# Altium footprint library RelayBord.PcbLib: 28 footprints (part 1 of 2)
Each footprint in its own frame and in the unit in brackets; x right, y up, seen from the top. Pads: shape width x height; smd on the part's side, far side on the other; paste and mask are expansions set on the pad; w line width, h text height; cw(c..) or ccw(c..) is an arc to the next point about the centre after c.
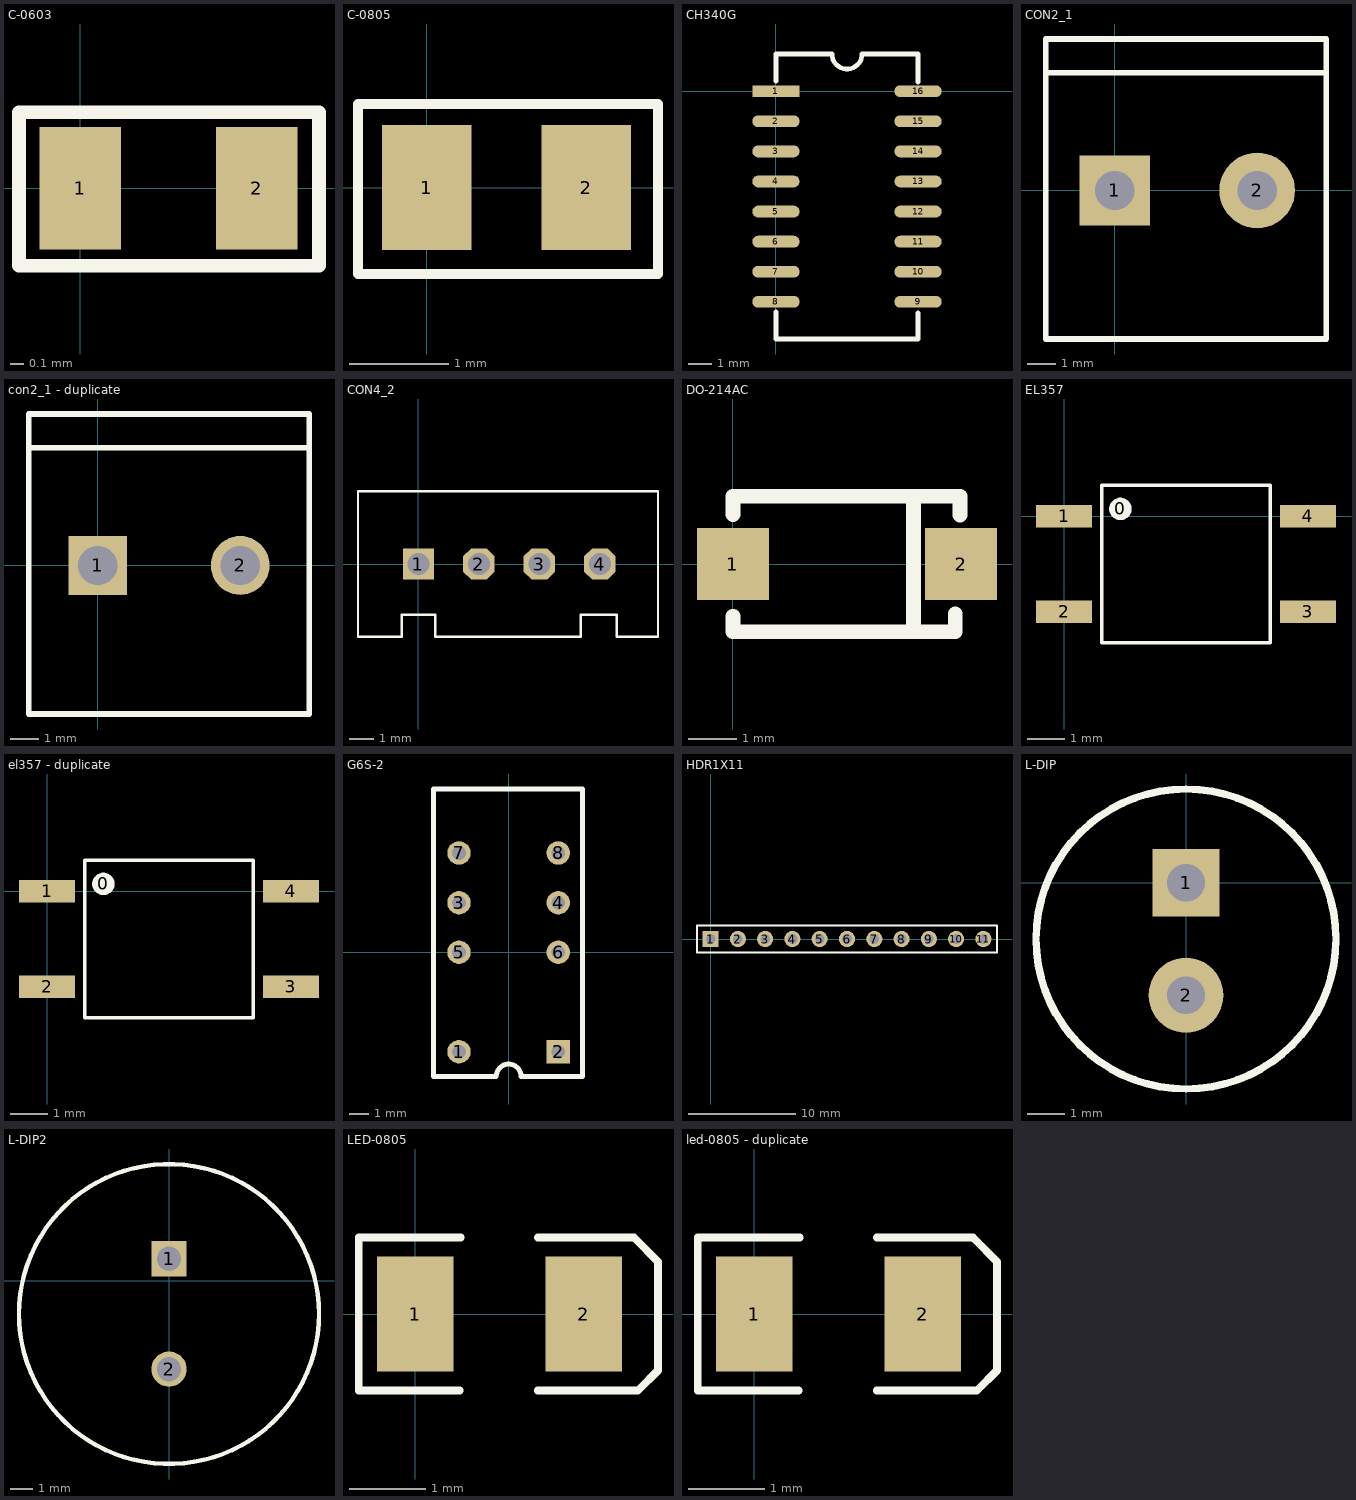
[diagram p0: the footprints below, top view; thin cyan lines are the x and y axes]

## AD7705 [mm]

## C-0603 [mm] "SMT 1.6*0.81*0.25"
height 0.35
pads (2):
  rect 0.6x0.9 smd: 1(0,0) 2(1.3,0)
Top Overlay:
  lines w0.1: -0.45,-0.57 -0.45,0.56 1.76,0.56 1.76,-0.57 -0.45,-0.57

## C-0805 [mm] "SMT"
height 0.35
pads (2):
  rect 0.9x1.25 smd: 1(0,0) 2(1.6,0)
Top Overlay:
  lines w0.1: -0.69,-0.87 -0.69,0.84 2.32,0.84 2.32,-0.87 -0.69,-0.87

## CH340G [mm]
pads (16):
  rect 2x0.5 smd: 1(0,0)
  oval 2x0.5 smd: 2(0,-1.27) 3(0,-2.54) 4(0,-3.81) 5(0,-5.08) 6(0,-6.35) 7(0,-7.62) 8(0,-8.89) 9(6,-8.89) 10(6,-7.62) 11(6,-6.35) 12(6,-5.08) 13(6,-3.81) 14(6,-2.54) 15(6,-1.27) 16(6,0)
Top Overlay:
  lines w0.2: 0,-9.323 0,-10.46 6,-10.46 6,-9.363 ; 0,0.436 0,1.57 2.329,1.57 ; 2.365,1.57 ccw(c3,1.57) 3.635,1.57 5.981,1.57 ; 6,0.38 6,1.57

## CON2_1 [mm] "间距 5."
pads (2):
  rect 2.5x2.5 hole 1.4: 1(0,0)
  round 2.7 hole 1.4: 2(5.08,0)
Top Overlay:
  lines w0.2: -2.46,4.2 7.54,4.2 ; -2.46,-5.3 -2.46,5.4 7.54,5.4 7.54,-5.3 -2.46,-5.3

## con2_1 - duplicate [mm]
pads (2):
  rect 2.1x2.1 hole 1.4: 1(0,0)
  round 2.1 hole 1.4: 2(5.08,0)
Top Overlay:
  lines w0.2: -2.46,4.2 7.54,4.2 ; -2.46,-5.3 7.54,-5.3 7.54,5.4 -2.46,5.4 -2.46,-5.3

## CON4_2 [mm] "XH2.54"
pads (4):
  rect 1.3x1.3 hole 0.9: 1(0,0)
  oct 1.3x1.3 hole 0.9: 2(2.5,0) 3(5,0) 4(7.5,0)
Top Overlay:
  lines w0.1: -2.5,-3 -2.5,3 9.9,3 9.9,-3 8.2,-3 8.2,-2.1 6.7,-2.1 6.7,-3 0.7,-3 0.7,-2.1 -0.7,-2.1 -0.7,-3 -2.5,-3

## DO-214AC [mm] "SMA"
pads (2):
  rect 1.5x1.5 smd: 1(0,0) 2(4.75,0)
Top Overlay:
  lines w0.305: 0,-1.09 0,-1.41 4.63,-1.41 4.63,-1.04 ; 0,1.03 0,1.41 4.73,1.41 4.73,1.02 ; 3.76,-1.41 3.76,1.41

## EL357 [mm]
pads (5):
  round 0.6 on Top Overlay: 0(1.5,0.2)
  rect 1.5x0.6 smd: 1(0,0) 2(0,-2.54) 3(6.5,-2.54) 4(6.5,0)
Top Overlay:
  lines w0.1: 1,-3.37 1,0.83 5.5,0.83 5.5,-3.37 1,-3.37

## el357 - duplicate [mm]
pads (5):
  round 0.6 on Top Overlay: 0(1.5,0.2)
  rect 1.5x0.6 smd: 1(0,0) 2(0,-2.54) 3(6.5,-2.54) 4(6.5,0)
Top Overlay:
  lines w0.1: 1,-3.37 1,0.83 5.5,0.83 5.5,-3.37 1,-3.37

## G6S-2 [mm]
pads (8):
  round 1.2 hole 0.7: 1(-2.54,-5.08) 3(-2.54,2.54) 4(2.54,2.54) 5(-2.54,0) 6(2.54,0) 7(-2.54,5.08) 8(2.54,5.08)
  rect 1.2x1.2 hole 0.7: 2(2.54,-5.08)
Top Overlay:
  lines w0.254: -3.835,8.35 -3.835,-6.35 -1.11,-6.35 ; -3.805,8.35 3.765,8.35 3.765,-6.35 2.86,-6.35 1.065,-6.35 ; -1.205,-6.35 -0.635,-6.35 cw(c0,-6.35) 0.635,-6.35 1.205,-6.35

## HDR1X11 [mm] "Connector; Header; 11 Position"
pads (11):
  rect 1.5x1.5 hole 0.9: 1(0,0)
  round 1.5 hole 0.9: 2(2.54,0) 3(5.08,0) 4(7.62,0) 5(10.16,0) 6(12.7,0) 7(15.24,0) 8(17.78,0) 9(20.32,0) 10(22.86,0) 11(25.4,0)
Top Overlay:
  lines w0.2: -1.27,-1.27 -1.27,1.27 0.635,1.27 26.67,1.27 26.67,-1.27 -1.27,-1.27

## L-DIP [mm] "6*8 0608"
height 8.5
pads (2):
  rect 1.8x1.8 hole 1: 1(0,0)
  round 2 hole 1: 2(0,-3)
Top Overlay:
  circle w0.2: c0,-1.5 r4

## L-DIP2 [mm] "9.5*13   间距5"
height 13
pads (2):
  rect 1.6x1.6 hole 1.1: 1(0,1)
  round 1.6 hole 1.1: 2(0,-4)
Top Overlay:
  circle w0.2: c0,-1.5 r6.8

## LED-0805 [mm] "SMT LED; 2 Flat Leads"
height 0.75
pads (2):
  rect 1x1.5 smd: 1(0,0) 2(2.2,0)
Top Overlay:
  lines w0.1: 0.58,-1 -0.74,-1 -0.74,1 0.592,1 ; 1.601,-1 2.909,-1 ; 1.604,1 2.86,1 ; 2.873,0.982 3.173,0.682 3.173,-0.739 2.914,-0.998

## led-0805 - duplicate [mm]
pads (2):
  rect 1x1.5 smd: 1(0,0) 2(2.2,0)
Top Overlay:
  lines w0.1: 0.58,-1 -0.74,-1 -0.74,1 0.592,1 ; 1.601,-1 2.909,-1 ; 1.604,1 2.86,1 ; 2.873,0.982 3.173,0.682 3.173,-0.739 2.914,-0.998